# Altium footprint library CapAluminium.PcbLib: 51 footprints (part 4 of 4)
Each footprint in its own frame and in the unit in brackets; x right, y up, seen from the top. Pads: shape width x height; smd on the part's side, far side on the other; paste and mask are expansions set on the pad; w line width, h text height; cw(c..) or ccw(c..) is an arc to the next point about the centre after c.
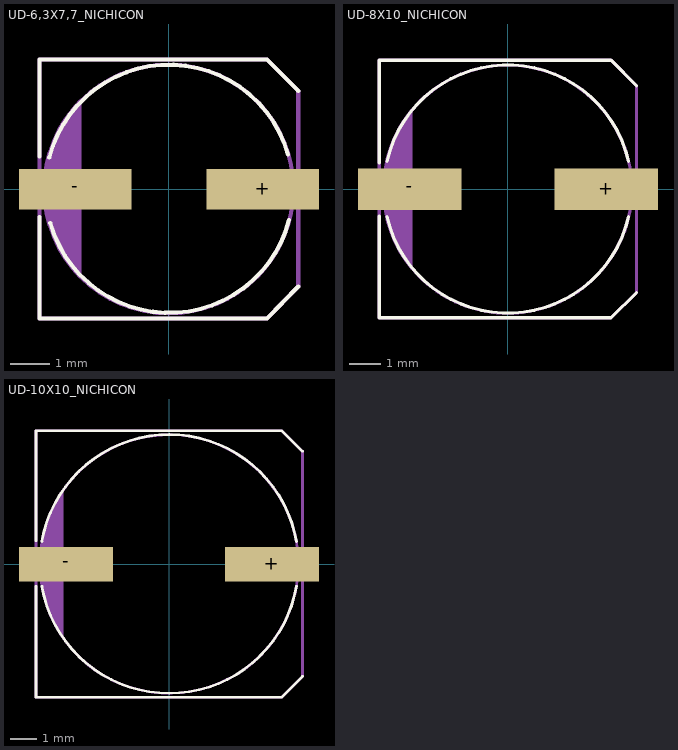
[diagram p3: the footprints below, top view; thin cyan lines are the x and y axes]

## UD-6,3X7,7_NICHICON [mil]
pads (2):
  rect 111x40 smd: +(93,0) -(-92.52,0)
Top Overlay:
  lines w4: -127.95,-27.56 -127.95,-127.95 97,-127.95 128,-96.46 ; -127.95,32 -127.95,128 97,128 128,97 ; -118.11,31 cw(c0.35,0.59) 118,34 ; -117.13,-33.46 ccw(c0.54,-0.08) 119,-30.51
Mechanical 16:
  circle w4: c0,0 r123
  region: -86.61,85 -92.09,79.39 -101.5,66.86 -109.22,53.23 -115.13,38.71 -119.13,23.56 -121.14,8.01 -121.14,-7.66 -119.13,-23.2 -115.13,-38.36 -109.22,-52.87 -101.5,-66.51 -92.09,-79.04 -86.61,-84.65
  lines w4: -127.95,-127.95 97,-127.95 128,-96.46 128,97 97,128 -127.95,128 -127.95,-127.95
3D body "User Library-E-cap_H_6.3X7.7.step": height 303.19, standoff 0, extent -143.7,-129.91 143.7,129.93

## UD-8X10_NICHICON [mil]
pads (2):
  rect 130x52 smd: +(124,0) -(-123.03,0)
Top Overlay:
  lines w4: -161.42,-33.46 -161.42,-161.42 130,-161.42 162,-129.92 ; -161.42,33 -161.42,162 130,162 162,130 ; -151.57,-34.45 ccw(c0.21,-0.05) 152,-34.45 ; -151.57,35 cw(c0.21,0.6) 152,35
Mechanical 16:
  circle w4: c0,0 r156
  region: -120.08,98 -125.62,91.14 -135.08,76.27 -142.8,60.42 -148.68,43.79 -152.64,26.61 -154.64,9.1 -154.64,-8.54 -152.64,-26.05 -148.68,-43.23 -142.8,-59.86 -135.08,-75.71 -125.62,-90.58 -120.08,-97.44
  lines w4: -161.42,-161.42 -161.42,162 130,162 162,130 162,-129.92 130,-161.42 -161.42,-161.42
3D body "8X10.5.step": height 415.35, standoff 0, extent -160,-158.39 166.77,168.39

## UD-10X10_NICHICON [mil]
pads (2):
  rect 142x52 smd: +(155,0) -(-155.51,0)
Top Overlay:
  lines w4: -200.79,-33.46 -200.79,-200.79 170,-200.79 201,-169.29 ; -200.79,35 -200.79,201 170,201 201,170 ; -191.93,-33.46 ccw(c0.04,-0.06) 192,-33.46 ; -191.93,34 cw(c0.04,0.6) 192,34
Mechanical 16:
  circle w4: c0,0 r195
  region: -159.45,111 -165.07,102.9 -174.61,85.64 -182.37,67.51 -188.25,48.69 -192.21,29.37 -194.2,9.75 -194.2,-9.97 -192.21,-29.59 -188.25,-48.91 -182.37,-67.73 -174.61,-85.86 -165.07,-103.12 -159.45,-111.22
  lines w4: -200.79,-200.79 170,-200.79 201,-169.29 201,170 170,201 -200.79,201 -200.79,-200.79
3D body "User Library-CL_series_size10x10.step": height 393.7, standoff 0, extent -214.56,-202.76 214.57,202.76